# Altium footprint library IRM055.PcbLib: 1 footprints
Each footprint in its own frame and in the unit in brackets; x right, y up, seen from the top. Pads: shape width x height; smd on the part's side, far side on the other; paste and mask are expansions set on the pad; w line width, h text height; cw(c..) or ccw(c..) is an arc to the next point about the centre after c.
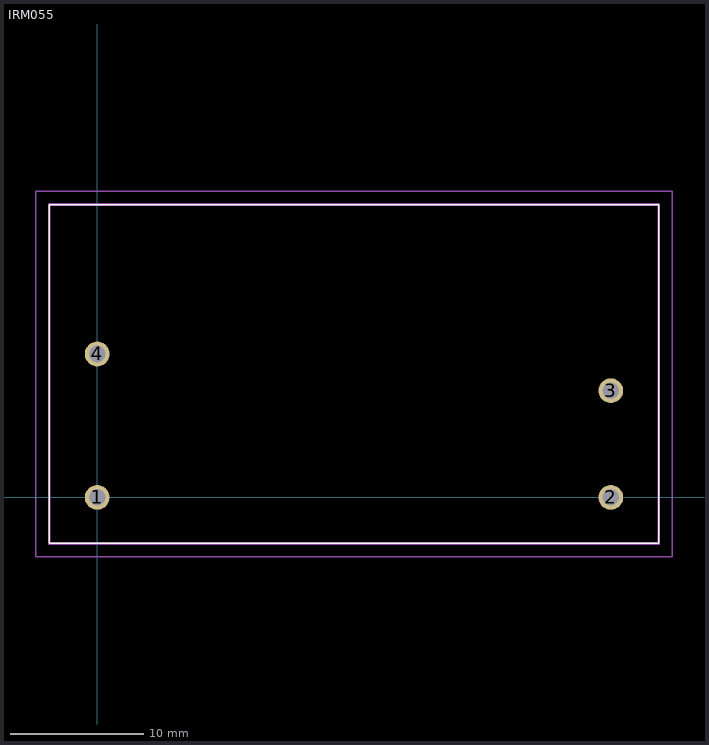
[diagram p0: the footprint, top view; thin cyan lines are the x and y axes]

## IRM055 [mm]
pads (4):
  round 1.86 hole 1.24: 1(0,0) 2(38.5,0) 3(38.5,8) 4(0,10.75)
Top Overlay:
  lines w0.1: -3.6,-3.45 42.1,-3.45 42.1,21.95 -3.6,21.95 -3.6,-3.45
Mechanical 15:
  lines w0.2: -3.6,-3.45 42.1,-3.45 42.1,21.95 -3.6,21.95 -3.6,-3.45
Mechanical 20:
  lines w0.1: -4.6,-4.45 43.1,-4.45 43.1,22.95 -4.6,22.95 -4.6,-4.45